# EAGLE library part AOZ1280 (library spietz-library)
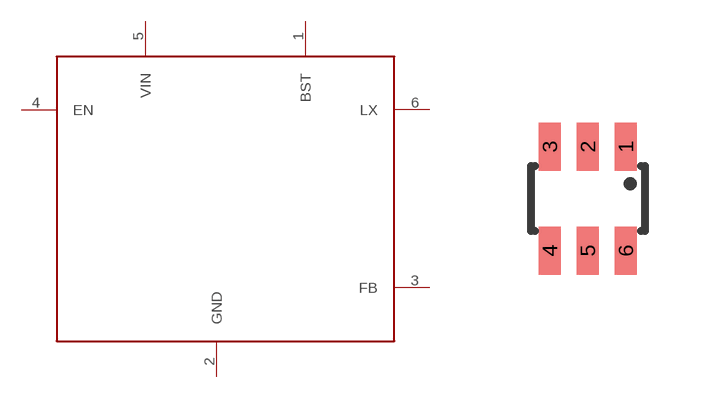
[diagram p14: symbol with the pads of SSOT23-6; footprint SSOT23-6]

Designator prefix -

## AOZ1280  [SSOT23-6]
1  BST
2  GND
3  FB
4  EN
5  VIN
6  LX

## Footprint SSOT23-6 (pad centres in mm)
smd 0.55 x 1.2: 1 0.95,1.3; 2 0,1.3; 3 -0.95,1.3; 4 -0.95,-1.3; 5 0,-1.3; 6 0.95,-1.3